# Altium footprint library ICs.PcbLib: 72 footprints (part 3 of 5)
Each footprint in its own frame and in the unit in brackets; x right, y up, seen from the top. Pads: shape width x height; smd on the part's side, far side on the other; paste and mask are expansions set on the pad; w line width, h text height; cw(c..) or ccw(c..) is an arc to the next point about the centre after c.
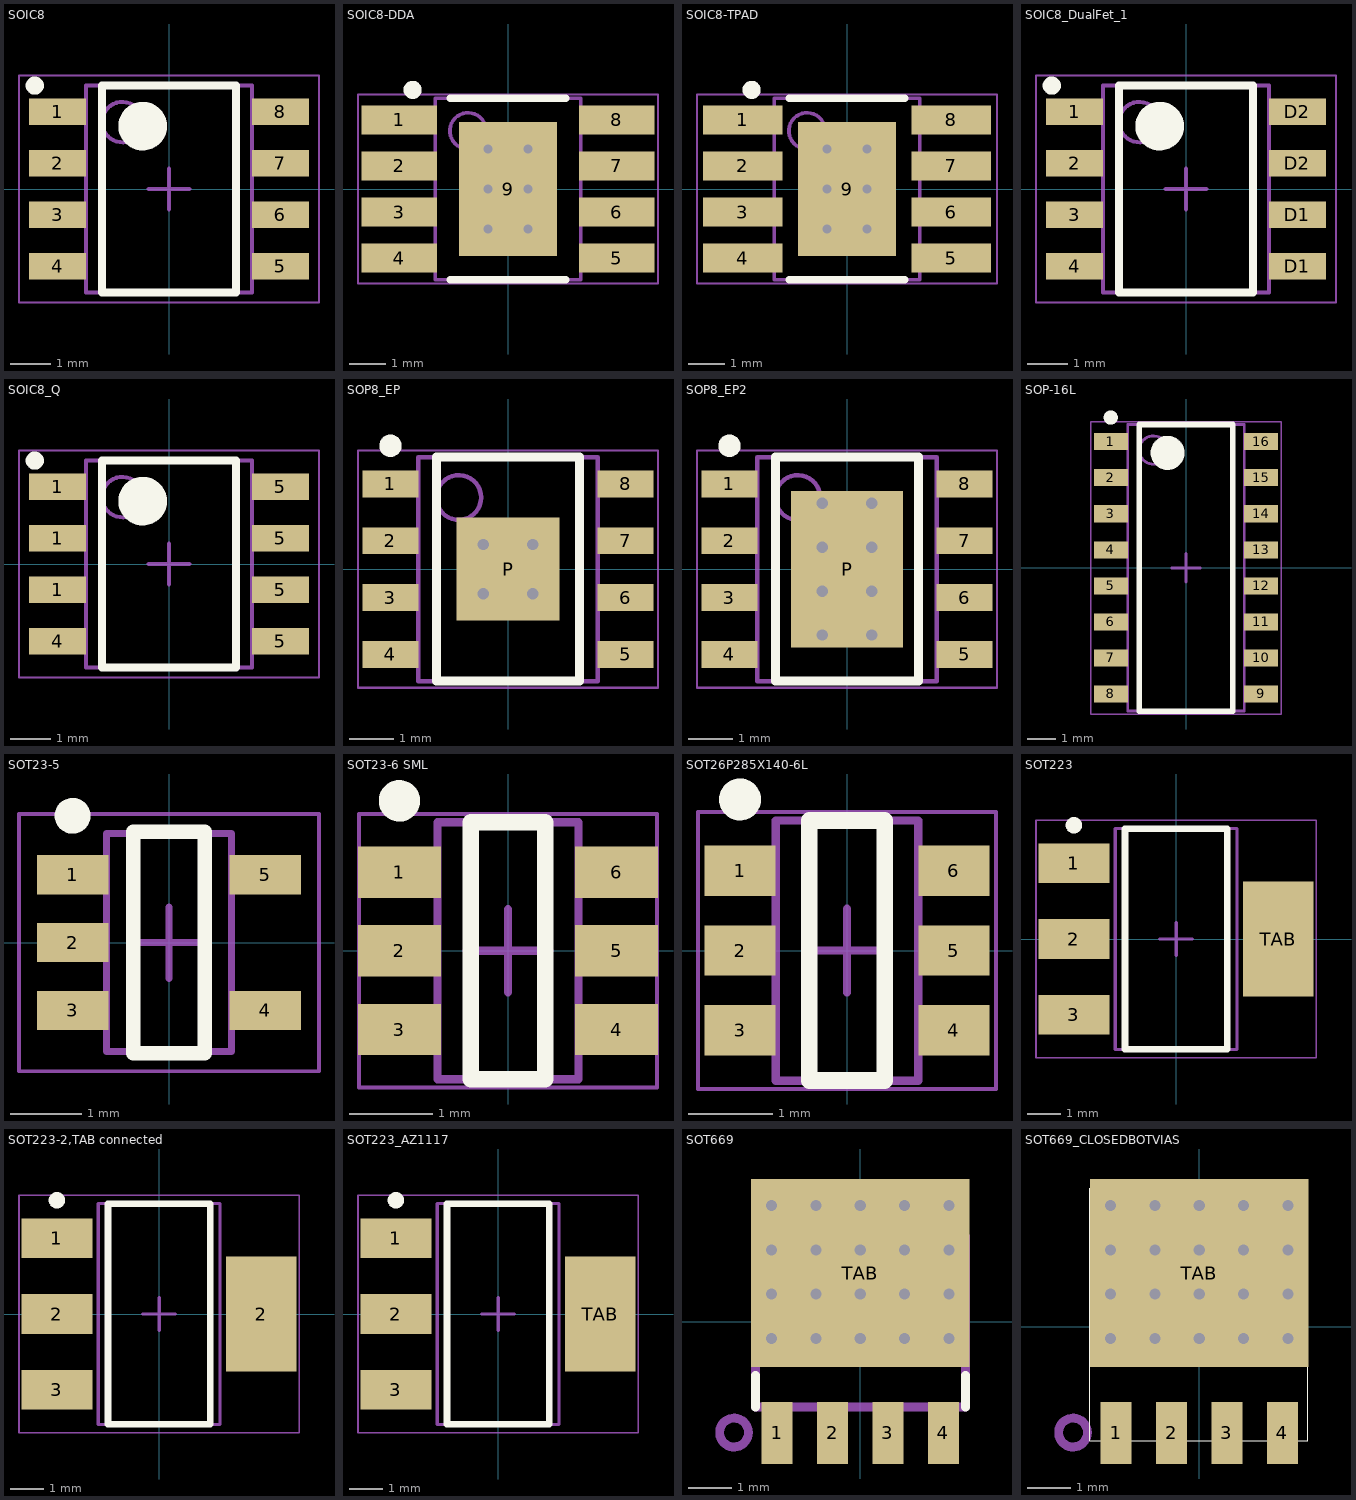
[diagram p2: the footprints below, top view; thin cyan lines are the x and y axes]

## SOIC8 [mm] "SOIC, 8-Leads, Body 4.90x3.90mm, Pitch 1.27mm, IPC Medium Density"
height 1.75
pads (8):
  rect 1.4x0.65 smd: 1(-2.75,1.905) 2(-2.75,0.635) 3(-2.75,-0.635) 4(-2.75,-1.905) 5(2.75,-1.905) 6(2.75,-0.635) 7(2.75,0.635) 8(2.75,1.905)
Top Overlay:
  circle w0.25: c-3.31,2.55 r0.1
  circle w0.6: c-0.65,1.55 r0.3
  lines w0.2: -1.65,-2.55 -1.65,2.55 1.65,2.55 1.65,-2.55 -1.65,-2.55
Mechanical 13:
  circle w0.1: c-1.15,1.65 r0.5
  lines w0.1: -2.05,-2.55 -2.05,2.55 2.05,2.55 2.05,-2.55 -2.05,-2.55
Mechanical 15:
  lines w0.05: -3.7,-2.8 -3.7,2.8 3.7,2.8 3.7,-2.8 -3.7,-2.8
  lines w0.1: -0.5,0 0.5,0 ; 0,-0.5 0,0.5
3D body "SOIC8.step": height 1.75, standoff 0, extent -3,-2.55 3,2.55

## SOIC8-DDA [mm]
height 1.7
pads (9):
  rect 2.08x0.8 smd: 1(-2.99,1.905) 2(-2.99,0.635) 3(-2.99,-0.635) 4(-2.99,-1.905) 5(2.99,-1.905) 6(2.99,-0.635) 7(2.99,0.635) 8(2.99,1.905)
  rect 2.71x3.7 smd paste-1.905: 9(0,0)
via 0.55,-1.1 diameter 0.559 hole 0.254
via -0.55,-1.1 diameter 0.559 hole 0.254
via 0.55,0 diameter 0.559 hole 0.254
via -0.55,0 diameter 0.559 hole 0.254
via 0.55,1.1 diameter 0.559 hole 0.254
via -0.55,1.1 diameter 0.559 hole 0.254
Top Overlay:
  circle w0.25: c-2.625,2.73 r0.125
  lines w0.2: -1.6,-2.5 1.6,-2.5 ; -1.6,2.5 1.6,2.5
Top Paste:
  region: -1.21,-1.71 -0.18,-1.71 -0.18,-0.28 -1.21,-0.28
  region: 1.21,1.71 0.18,1.71 0.18,0.28 1.21,0.28
  region: 0.18,-1.71 1.21,-1.71 1.21,-0.28 0.18,-0.28
  region: -0.18,1.71 -1.21,1.71 -1.21,0.28 -0.18,0.28
Mechanical 13:
  circle w0.1: c-1.1,1.6 r0.5
  lines w0.1: -2,-2.5 2,-2.5 2,2.5 -2,2.5 -2,-2.5
Mechanical 15:
  lines w0.05: -4.13,-2.6 4.13,-2.6 4.13,2.6 -4.13,2.6 -4.13,-2.6
  lines w0.1: -0.5,0 0.5,0 ; 0,-0.5 0,0.5
3D body "SOIC8-TPAD.step": height 1.7, standoff 0, extent -3,-2.5 3,2.5

## SOIC8-TPAD [mm]
height 1.7
pads (9):
  rect 2.2x0.8 smd: 1(-2.87,1.905) 2(-2.87,0.635) 3(-2.87,-0.635) 4(-2.87,-1.905) 5(2.87,-1.905) 6(2.87,-0.635) 7(2.87,0.635) 8(2.87,1.905)
  rect 2.71x3.7 smd paste-1.905: 9(0,0)
via -0.55,1.1 diameter 0.559 hole 0.254
via 0.55,1.1 diameter 0.559 hole 0.254
via -0.55,0 diameter 0.559 hole 0.254
via 0.55,0 diameter 0.559 hole 0.254
via -0.55,-1.1 diameter 0.559 hole 0.254
via 0.55,-1.1 diameter 0.559 hole 0.254
Top Overlay:
  circle w0.25: c-2.625,2.73 r0.125
  lines w0.2: -1.6,-2.5 1.6,-2.5 ; -1.6,2.5 1.6,2.5
Top Paste:
  region: -0.18,1.71 -1.21,1.71 -1.21,0.28 -0.18,0.28
  region: 0.18,-1.71 1.21,-1.71 1.21,-0.28 0.18,-0.28
  region: 1.21,1.71 0.18,1.71 0.18,0.28 1.21,0.28
  region: -1.21,-1.71 -0.18,-1.71 -0.18,-0.28 -1.21,-0.28
Mechanical 13:
  circle w0.1: c-1.1,1.6 r0.5
  lines w0.1: -2,-2.5 -2,2.5 2,2.5 2,-2.5 -2,-2.5
Mechanical 15:
  lines w0.05: -4.13,-2.6 -4.13,2.6 4.13,2.6 4.13,-2.6 -4.13,-2.6
  lines w0.1: -0.5,0 0.5,0 ; 0,-0.5 0,0.5
3D body "SOIC8-TPAD.step": height 1.7, standoff 0, extent -3,-2.5 3,2.5

## SOIC8_DualFet_1 [mm] "SOIC, 8-Leads, Body 4.90x3.90mm, Pitch 1.27mm, IPC Medium Density"
height 1.75
pads (8):
  rect 1.4x0.65 smd: 1(-2.75,1.905) 2(-2.75,0.635) 3(-2.75,-0.635) 4(-2.75,-1.905) D1(2.75,-1.905) D1(2.75,-0.635) D2(2.75,0.635) D2(2.75,1.905)
Top Overlay:
  circle w0.6: c-0.65,1.55 r0.3
  circle w0.25: c-3.31,2.55 r0.1
  lines w0.2: -1.65,-2.55 1.65,-2.55 1.65,2.55 -1.65,2.55 -1.65,-2.55
Mechanical 13:
  circle w0.1: c-1.15,1.65 r0.5
  lines w0.1: -2.05,-2.55 2.05,-2.55 2.05,2.55 -2.05,2.55 -2.05,-2.55
Mechanical 15:
  lines w0.05: -3.7,-2.8 3.7,-2.8 3.7,2.8 -3.7,2.8 -3.7,-2.8
  lines w0.1: -0.5,0 0.5,0 ; 0,-0.5 0,0.5
3D body "SOIC8.step": height 1.75, standoff 0, extent -3,-2.55 3,2.55

## SOIC8_Q [mm] "SOIC, 8-Leads, Body 4.90x3.90mm, Pitch 1.27mm, IPC Medium Density"
height 1.75
pads (8):
  rect 1.4x0.65 smd: 1(-2.75,-0.635) 1(-2.75,0.635) 1(-2.75,1.905) 4(-2.75,-1.905) 5(2.75,-1.905) 5(2.75,-0.635) 5(2.75,0.635) 5(2.75,1.905)
Top Overlay:
  circle w0.25: c-3.31,2.55 r0.1
  circle w0.6: c-0.65,1.55 r0.3
  lines w0.2: -1.65,-2.55 -1.65,2.55 1.65,2.55 1.65,-2.55 -1.65,-2.55
Mechanical 13:
  circle w0.1: c-1.15,1.65 r0.5
  lines w0.1: -2.05,-2.55 -2.05,2.55 2.05,2.55 2.05,-2.55 -2.05,-2.55
Mechanical 15:
  lines w0.05: -3.7,-2.8 -3.7,2.8 3.7,2.8 3.7,-2.8 -3.7,-2.8
  lines w0.1: -0.5,0 0.5,0 ; 0,-0.5 0,0.5
3D body "SOIC8.step": height 1.75, standoff 0, extent -3,-2.55 3,2.55

## SOP8_EP [mm]
height 1.35
pads (9):
  rect 1.25x0.6 smd mask+0.051: 1(-2.625,1.905) 2(-2.625,0.635) 3(-2.625,-0.635) 4(-2.625,-1.905) 5(2.625,-1.905) 6(2.625,-0.635) 7(2.625,0.635) 8(2.625,1.905)
  rect 2.3x2.3 smd paste-0.102 mask+0.051: P(0,0)
via -0.55,0.55 diameter 0.559 hole 0.254
via 0.55,0.55 diameter 0.559 hole 0.254
via -0.55,-0.55 diameter 0.559 hole 0.254
via 0.55,-0.55 diameter 0.559 hole 0.254
Top Overlay:
  circle w0.25: c-2.625,2.755 r0.125
  lines w0.2: -1.6,-2.5 -1.6,2.5 1.6,2.5 1.6,-2.5 -1.6,-2.5
Mechanical 13:
  circle w0.1: c-1.1,1.6 r0.5
  lines w0.1: -2,-2.5 -2,2.5 2,2.5 2,-2.5 -2,-2.5
Mechanical 15:
  lines w0.05: -3.35,-2.65 -3.35,2.65 3.35,2.65 3.35,-2.65 -3.35,-2.65
  lines w0.1: -0.5,0 0.5,0 ; 0,-0.5 0,0.5
3D body "SOP8_EP.step": height 1.75, standoff 0, extent -2.998,-2.5 2.998,2.5

## SOP8_EP2 [mm]
height 1.35
pads (9):
  rect 1.25x0.6 smd mask+0.051: 1(-2.625,1.905) 2(-2.625,0.635) 3(-2.625,-0.635) 4(-2.625,-1.905) 5(2.625,-1.905) 6(2.625,-0.635) 7(2.625,0.635) 8(2.625,1.905)
  rect 2.5x3.5 smd paste-1.75 mask+0.051: P(0,0)
via -0.55,1.47 diameter 0.559 hole 0.254
via 0.55,1.47 diameter 0.559 hole 0.254
via -0.55,-1.47 diameter 0.559 hole 0.254
via 0.55,-1.47 diameter 0.559 hole 0.254
via -0.55,0.49 diameter 0.559 hole 0.254
via 0.55,0.49 diameter 0.559 hole 0.254
via -0.55,-0.49 diameter 0.559 hole 0.254
via 0.55,-0.49 diameter 0.559 hole 0.254
Top Overlay:
  circle w0.25: c-2.625,2.755 r0.125
  lines w0.2: -1.6,-2.5 -1.6,2.5 1.6,2.5 1.6,-2.5 -1.6,-2.5
Mechanical 13:
  circle w0.1: c-1.1,1.6 r0.5
  lines w0.1: -2,-2.5 -2,2.5 2,2.5 2,-2.5 -2,-2.5
Mechanical 15:
  lines w0.05: -3.35,-2.65 -3.35,2.65 3.35,2.65 3.35,-2.65 -3.35,-2.65
  lines w0.1: -0.5,0 0.5,0 ; 0,-0.5 0,0.5
3D body "SOP8_EP.step": height 1.75, standoff 0, extent -2.998,-2.5 2.998,2.5

## SOP-16L [mm]
height 1.6
pads (16):
  rect 1.2x0.6 smd: 1(-2.65,4.445) 2(-2.65,3.175) 3(-2.65,1.905) 4(-2.65,0.635) 5(-2.65,-0.635) 6(-2.65,-1.905) 7(-2.65,-3.175) 8(-2.65,-4.445) 9(2.65,-4.445) 10(2.65,-3.175) 11(2.65,-1.905) 12(2.65,-0.635) 13(2.65,0.635) 14(2.65,1.905) 15(2.65,3.175) 16(2.65,4.445)
Top Overlay:
  circle w0.6: c-0.65,4.05 r0.3
  circle w0.25: c-2.65,5.295 r0.125
  lines w0.2: -1.65,-5.05 1.65,-5.05 1.65,5.05 -1.65,5.05 -1.65,-5.05
Mechanical 13:
  circle w0.1: c-1.15,4.15 r0.5
  lines w0.1: -2.05,-5.05 2.05,-5.05 2.05,5.05 -2.05,5.05 -2.05,-5.05
Mechanical 15:
  lines w0.05: -3.35,-5.15 3.35,-5.15 3.35,5.15 -3.35,5.15 -3.35,-5.15
  lines w0.1: -0.5,0 0.5,0 ; 0,-0.5 0,0.5
3D body "SOP-16L.step": height 1.6, standoff 0, extent -3,-5.05 3,5.05

## SOT23-5 [mm]
height 1.45
pads (5):
  rect 1x0.55 smd: 1(-1.35,0.95) 2(-1.35,0) 3(-1.35,-0.95) 4(1.35,-0.95) 5(1.35,0.95)
Top Overlay:
  circle w0.25: c-1.35,1.775 r0.125
  lines w0.2: -0.5,-1.55 -0.5,1.55 0.5,1.55 0.5,-1.55 -0.5,-1.55
Mechanical 13:
  lines w0.1: -0.875,-1.525 0.875,-1.525 0.875,1.525 -0.875,1.525 -0.875,-1.525
Mechanical 15:
  lines w0.05: -2.1,-1.8 2.1,-1.8 2.1,1.8 -2.1,1.8 -2.1,-1.8
  lines w0.1: -0.5,0 0.5,0 ; 0,-0.5 0,0.5
3D body "SOT23-5.step": height 1.45, standoff 0, extent -1.5,-1.525 1.5,1.525

## SOT23-6 SML [mm]
height 1.25
pads (6):
  rect 1x0.62 smd: 1(-1.31,0.95) 2(-1.31,0) 3(-1.31,-0.95) 4(1.31,-0.95) 5(1.31,0) 6(1.31,0.95)
Top Overlay:
  circle w0.25: c-1.31,1.81 r0.125
  lines w0.2: -0.45,-1.55 -0.45,1.55 0.45,1.55 0.45,-1.55 -0.45,-1.55
Mechanical 13:
  lines w0.1: -0.85,-1.55 0.85,-1.55 0.85,1.55 -0.85,1.55 -0.85,-1.55
Mechanical 15:
  lines w0.05: -1.8,-1.65 1.8,-1.65 1.8,1.65 -1.8,1.65 -1.8,-1.65
  lines w0.1: -0.5,0 0.5,0 ; 0,-0.5 0,0.5
3D body "SOT23-6 SML.step": height 1.25, standoff 0, extent -1.55,-1.55 1.55,1.55

## SOT26P285X140-6L [mm] "SOT26, 6-Leads, Body 3.00x2.85mm, Pitch 0.95mm, IPC High Density"
height 1.4
pads (6):
  rect 0.85x0.6 smd: 1(-1.275,0.95) 2(-1.275,0) 3(-1.275,-0.95) 4(1.275,-0.95) 5(1.275,0) 6(1.275,0.95)
Top Overlay:
  circle w0.25: c-1.275,1.8 r0.125
  lines w0.2: -0.45,-1.55 0.45,-1.55 0.45,1.55 -0.45,1.55 -0.45,-1.55
Mechanical 13:
  lines w0.1: -0.85,-1.55 -0.85,1.55 0.85,1.55 0.85,-1.55 -0.85,-1.55
Mechanical 15:
  lines w0.05: -1.775,-1.65 -1.775,1.65 1.775,1.65 1.775,-1.65 -1.775,-1.65
  lines w0.1: -0.5,0 0.5,0 ; 0,-0.5 0,0.5
3D body: height 1.4, standoff 0.1, extent -0.85,-1.55 0.85,1.55

## SOT223 [mm] "SOT223 (SC-73)"
height 1.8
pads (4):
  rect 2.15x1.2 smd: 1(-3.1,2.3) 2(-3.1,0) 3(-3.1,-2.3)
  rect 2.15x3.5 smd: TAB(3.1,0)
Top Overlay:
  circle w0.25: c-3.1,3.45 r0.125
  lines w0.2: -1.55,-3.35 -1.55,3.35 1.55,3.35 1.55,-3.35 -1.55,-3.35
Mechanical 13:
  lines w0.1: -1.85,-3.35 -1.85,3.35 1.85,3.35 1.85,-3.35 -1.85,-3.35
Mechanical 15:
  lines w0.05: -4.25,-3.6 -4.25,3.6 4.25,3.6 4.25,-3.6 -4.25,-3.6
  lines w0.1: -0.5,0 0.5,0 ; 0,-0.5 0,0.5
3D body "SOT223_AZ1117.step": height 1.8, standoff 0, extent -3.5,-3.35 3.5,3.35

## SOT223-2,TAB connected [mm] "SOT223 (SC-73)"
height 1.8
pads (4):
  rect 2.15x1.2 smd: 1(-3.1,2.3) 2(-3.1,0) 3(-3.1,-2.3)
  rect 2.15x3.5 smd: 2(3.1,0)
Top Overlay:
  circle w0.25: c-3.1,3.45 r0.125
  lines w0.2: -1.55,-3.35 1.55,-3.35 1.55,3.35 -1.55,3.35 -1.55,-3.35
Mechanical 13:
  lines w0.1: -1.85,-3.35 1.85,-3.35 1.85,3.35 -1.85,3.35 -1.85,-3.35
Mechanical 15:
  lines w0.05: -4.25,-3.6 4.25,-3.6 4.25,3.6 -4.25,3.6 -4.25,-3.6
  lines w0.1: -0.5,0 0.5,0 ; 0,-0.5 0,0.5
3D body "SOT223_AZ1117.step": height 1.8, standoff 0, extent -3.5,-3.35 3.5,3.35

## SOT223_AZ1117 [mm] "Made for Diodes Inc AZ1117 Vreg"
height 1.8
pads (4):
  rect 2.15x1.2 smd: 1(-3.1,2.3) 2(-3.1,0) 3(-3.1,-2.3)
  rect 2.15x3.5 smd: TAB(3.1,0)
Top Overlay:
  circle w0.25: c-3.1,3.45 r0.125
  lines w0.2: -1.55,-3.35 -1.55,3.35 1.55,3.35 1.55,-3.35 -1.55,-3.35
Mechanical 13:
  lines w0.1: -1.85,-3.35 -1.85,3.35 1.85,3.35 1.85,-3.35 -1.85,-3.35
Mechanical 15:
  lines w0.05: -4.25,-3.6 -4.25,3.6 4.25,3.6 4.25,-3.6 -4.25,-3.6
  lines w0.1: -0.5,0 0.5,0 ; 0,-0.5 0,0.5
3D body "SOT223_AZ1117.step": height 1.8, standoff 0, extent -3.5,-3.35 3.5,3.35

## SOT669 [mm]
pads (9):
  rect 0.711x1.422 smd: 1(-1.905,-2.55) 2(-0.635,-2.55) 3(0.635,-2.55) 4(1.905,-2.55)
  rect 5.004x4.318 smd paste-2.6: TAB(0,1.118)
  rect 2.26x1.91 on Top Paste: ""(-1.351,-0.036) ""(-1.351,2.315) ""(1.351,-0.037) ""(1.351,2.314)
via 0,1.651 diameter 0.559 hole 0.254
via 0,2.667 diameter 0.559 hole 0.254
via 0,0.635 diameter 0.559 hole 0.254
via 0,-0.381 diameter 0.559 hole 0.254
via -1.016,-0.381 diameter 0.559 hole 0.254
via -2.032,-0.381 diameter 0.559 hole 0.254
via -2.032,0.635 diameter 0.559 hole 0.254
via -1.016,0.635 diameter 0.559 hole 0.254
via -1.016,1.651 diameter 0.559 hole 0.254
via -2.032,1.651 diameter 0.559 hole 0.254
via -2.032,2.667 diameter 0.559 hole 0.254
via -1.016,2.667 diameter 0.559 hole 0.254
via 1.016,2.667 diameter 0.559 hole 0.254
via 2.032,2.667 diameter 0.559 hole 0.254
via 2.032,1.651 diameter 0.559 hole 0.254
via 1.016,1.651 diameter 0.559 hole 0.254
via 1.016,0.635 diameter 0.559 hole 0.254
via 2.032,0.635 diameter 0.559 hole 0.254
via 2.032,-0.381 diameter 0.559 hole 0.254
via 1.016,-0.381 diameter 0.559 hole 0.254
Top Overlay:
  lines w0.203: -2.4,-1.95 -2.4,-1.225 ; 2.413,-1.95 2.413,-1.225
Mechanical 8:
  circle w0.203: c-2.895,-2.54 r0.33
  rectangle: 1.628,-2.8 2.212,-2.175
  rectangle: 1.678,-3.1 2.161,-2.05
  rectangle: 0.358,-2.8 0.942,-2.175
  rectangle: 0.408,-3.1 0.891,-2.05
  rectangle: -0.933,-2.8 -0.333,-2.175
  rectangle: -0.883,-3.1 -0.383,-2.05
  rectangle: -2.203,-2.8 -1.603,-2.175
  rectangle: -2.153,-3.1 -1.653,-2.05
  lines w0.203: -2.4,1.956 -2.4,-1.95 2.413,-1.95 2.413,1.956
3D body: height 0.3, standoff 0, extent 1.651,-3.048 2.159,-1.905
3D body: height 0.3, standoff 0, extent 0.381,-3.048 0.889,-1.905
3D body: height 0.3, standoff 0, extent -0.889,-3.048 -0.381,-1.905
3D body: height 0.3, standoff 0, extent -2.159,-3.048 -1.651,-1.905
3D body: height 0.3, standoff 0, extent -2.44,-0.96 2.464,3.251
3D body: height 1.1, standoff 0, extent -2.399,-1.95 2.412,1.955

## SOT669_CLOSEDBOTVIAS [mil]
pads (9):
  rect 28x56 smd: 1(-75,-95.77) 2(-25,-95.77) 3(25,-95.77) 4(75,-95.77)
  rect 197x170 smd paste-102.36: TAB(0,48.63)
  rect 88.98x75.2 on Top Paste: ""(-53.19,3.21) ""(-53.19,95.77) ""(53.19,3.17) ""(53.19,95.73)
via 40,-10.37 diameter 22 hole 10
via 80,-10.37 diameter 22 hole 10
via 80,29.63 diameter 22 hole 10
via 40,29.63 diameter 22 hole 10
via 40,69.63 diameter 22 hole 10
via 80,69.63 diameter 22 hole 10
via 80,109.63 diameter 22 hole 10
via 40,109.63 diameter 22 hole 10
via -40,109.63 diameter 22 hole 10
via -80,109.63 diameter 22 hole 10
via -80,69.63 diameter 22 hole 10
via -40,69.63 diameter 22 hole 10
via -40,29.63 diameter 22 hole 10
via -80,29.63 diameter 22 hole 10
via -80,-10.37 diameter 22 hole 10
via -40,-10.37 diameter 22 hole 10
via 0,-10.37 diameter 22 hole 10
via 0,29.63 diameter 22 hole 10
via 0,109.63 diameter 22 hole 10
via 0,69.63 diameter 22 hole 10
Top Overlay:
  lines w0.39: -98.82,-13.78 -78.74,-13.78 -78.74,106.48 -85.43,106.48 -85.43,125.2 -69.22,125.2 -69.22,106.48 -34.25,106.48 -34.25,125.2 -18.04,125.2 -18.04,106.48 16.14,106.48 16.14,125.2 32.36,125.2 32.36,106.48 66.54,106.48 66.54,125.2 82.75,125.2 82.75,106.3 78.74,106.3 78.74,-33.86 ; -98.74,-33.68 98.11,-33.68 ; -85.56,125.38 -85.56,130.5 -69.41,130.5 -69.41,125.38 ; -33.98,125.38 -33.98,130.5 -17.84,130.5 -17.84,125.38 ; 16.41,125.38 16.41,130.5 32.56,130.5 32.56,125.38 ; 66.81,125.38 66.81,130.5 82.95,130.5 82.95,125.38 ; -98.74,-102.57 98.11,-102.57 98.11,125.38 -98.74,125.38 -98.74,-102.57 ; -84.18,-107.3 -84.18,-83.28 -68.04,-83.28 -68.04,-107.3 -84.18,-107.3 ; -33.78,-107.3 -17.64,-107.3 -17.64,-83.28 -33.78,-83.28 -33.78,-107.3 ; 16.61,-107.3 32.75,-107.3 32.75,-83.28 16.61,-83.28 16.61,-107.3 ; 67,-107.3 83.15,-107.3 83.15,-83.28 67,-83.28 67,-107.3
Mechanical 8:
  circle w8: c-113.98,-95.37 r13
3D body: height 9.84, standoff 3.54, extent -84.18,-107.3 -68.04,-83.28
3D body: height 10, standoff 3.94, extent -62.52,-108.09 -62.52,-108.09
3D body: height 39.37, standoff 3.94, extent -99.14,-102.57 97.71,125.38
3D body: height 9.84, standoff 3.54, extent -33.78,-107.3 -17.64,-83.28
3D body: height 9.84, standoff 3.54, extent 16.61,-107.3 32.75,-83.28
3D body: height 9.84, standoff 3.54, extent 67,-107.3 83.15,-83.28
3D body: height 9.84, standoff 3.54, extent 66.61,106.48 82.75,130.5
3D body: height 9.84, standoff 3.54, extent 16.22,106.48 32.36,130.5
3D body: height 9.84, standoff 3.54, extent -34.18,106.48 -18.04,130.5
3D body: height 9.84, standoff 3.54, extent -85.36,106.48 -69.22,130.5
3D body: height 10, standoff 0, extent -78.74,-33.46 -78.74,-33.46
3D body: height 9.84, standoff 3.54, extent -78.74,-33.86 78.74,106.3